# Altium footprint library diy-modules.PCBLIB: 111 footprints (part 6 of 7)
Each footprint in its own frame and in the unit in brackets; x right, y up, seen from the top. Pads: shape width x height; smd on the part's side, far side on the other; paste and mask are expansions set on the pad; w line width, h text height; cw(c..) or ccw(c..) is an arc to the next point about the centre after c.
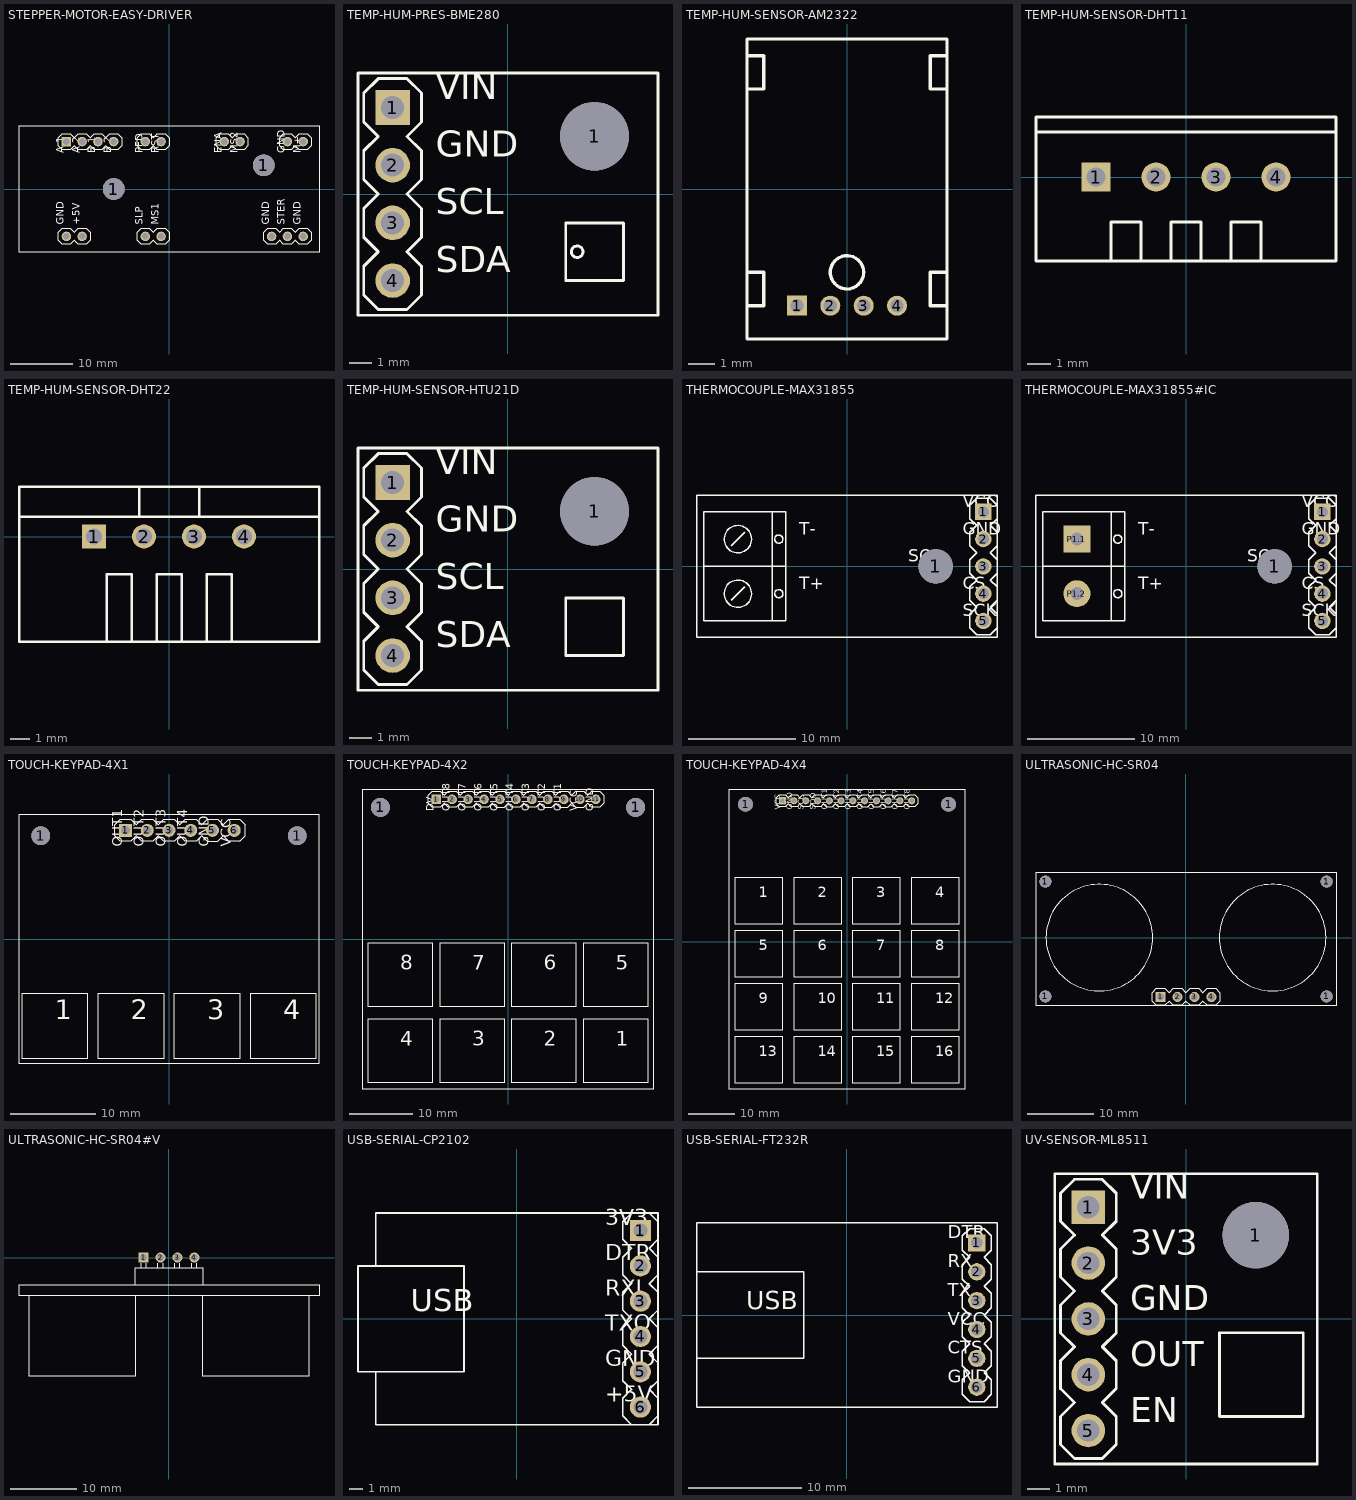
[diagram p5: the footprints below, top view; thin cyan lines are the x and y axes]

## STEPPER-MOTOR-EASY-DRIVER [mil]
pads (19):
  round 138 hole 138: 1(-350,0) 1(600,150)
  round 60 hole 40: JP1.1(750,300) JP1.2(850,300) JP2.1(650,-300) JP2.2(750,-300) JP2.3(850,-300) JP3.2(-550,300) JP3.3(-450,300) JP3.4(-350,300) JP4.1(-550,-300) JP4.2(-650,-300) JP5.1(-50,-300) JP5.2(-150,-300) JP6.1(350,300) JP6.2(450,300) JP7.1(-150,300) JP7.2(-50,300)
  rect 60x60 hole 40: JP3.1(-650,300)
Top Overlay:
  lines w5: -950,-400 950,-400 950,400 -950,400 -950,-400 ; -700,-325 -675,-350 -625,-350 -600,-325 -575,-350 -525,-350 -500,-325 -500,-275 -525,-250 -575,-250 -600,-275 -625,-250 -675,-250 -700,-275 -700,-325 ; -700,275 -675,250 -625,250 -600,275 -575,250 -525,250 -500,275 -475,250 -425,250 -400,275 -375,250 -325,250 -300,275 -300,325 -325,350 -375,350 -400,325 -425,350 -475,350 -500,325 -525,350 -575,350 -600,325 -625,350 -675,350 -700,325 -700,275 ; -200,-325 -175,-350 -125,-350 -100,-325 -75,-350 -25,-350 0,-325 0,-275 -25,-250 -75,-250 -100,-275 -125,-250 -175,-250 -200,-275 -200,-325 ; -200,275 -175,250 -125,250 -100,275 -75,250 -25,250 0,275 0,325 -25,350 -75,350 -100,325 -125,350 -175,350 -200,325 -200,275 ; 300,275 325,250 375,250 400,275 425,250 475,250 500,275 500,325 475,350 425,350 400,325 375,350 325,350 300,325 300,275 ; 600,-325 625,-350 675,-350 700,-325 725,-350 775,-350 800,-325 825,-350 875,-350 900,-325 900,-275 875,-250 825,-250 800,-275 775,-250 725,-250 700,-275 675,-250 625,-250 600,-275 600,-325 ; 700,275 725,250 775,250 800,275 825,250 875,250 900,275 900,325 875,350 825,350 800,325 775,350 725,350 700,325 700,275
  text "GND" at -650,-225 h77.5
  text "+5V" at -550,-225 h77.5
  text "SLP" at -150,-225 h77.5
  text "MS1" at -50,-225 h77.5
  text "GND" at 650,-225 h77.5
  text "STER" at 750,-225 h77.5
  text "GND" at 850,-225 h77.5
  text "A.1" at -650,225 h77.5
  text "A.2" at -550,225 h77.5
  text "B.1" at -450,225 h77.5
  text "B.2" at -350,225 h77.5
  text "PFD" at -150,225 h77.5
  text "RST" at -50,225 h77.5
  text "ENA" at 350,225 h77.5
  text "MS2" at 450,225 h77.5
  text "GND" at 750,225 h77.5
  text "M+" at 850,225 h77.5

## TEMP-HUM-PRES-BME280 [mil]
pads (5):
  rect 60x60 hole 40: 1(-200,150)
  round 119 hole 119: 1(150,100)
  round 60 hole 40: 2(-200,50) 3(-200,-50) 4(-200,-150)
Top Overlay:
  circle w5: c120,-100 r10
  lines w5: -260,-210 260,-210 260,210 -260,210 -260,-210 ; -250,-175 -225,-200 -175,-200 -150,-175 -150,-125 -175,-100 -150,-75 -150,-25 -175,0 -150,25 -150,75 -175,100 -150,125 -150,175 -175,200 -225,200 -250,175 -250,125 -225,100 -250,75 -250,25 -225,0 -250,-25 -250,-75 -225,-100 -250,-125 -250,-175 ; 100,-150 200,-150 200,-50 100,-50 100,-150
  text "SCL" at -125,-50 h77.5
  text "GND" at -125,50 h77.5
  text "VIN" at -125,150 h77.5
  text "SDA" at -125,-150 h77.5

## TEMP-HUM-SENSOR-AM2322 [mil]
pads (4):
  rect 30x30 hole 20: 1(-75,-175)
  round 30 hole 20: 2(-25,-175) 3(25,-175) 4(75,-175)
Top Overlay:
  circle w5: c0,-125 r25
  lines w5: -150,-175 -150,-225 150,-225 150,-175 ; -150,-175 -150,-125 ; -150,-175 -125,-175 -125,-125 -150,-125 ; -150,-125 -150,150 ; -150,150 -150,200 ; -150,150 -125,150 -125,200 -150,200 ; -150,200 -150,225 150,225 150,200 ; 150,-175 150,-125 ; 150,-175 125,-175 125,-125 150,-125 ; 150,-125 150,150 ; 150,150 150,200 ; 150,150 125,150 125,200 150,200

## TEMP-HUM-SENSOR-DHT11 [mil]
pads (4):
  rect 48x48 hole 32: 1(-150,0)
  round 48 hole 32: 2(-50,0) 3(50,0) 4(150,0)
Top Overlay:
  lines w5: -250,75 -250,-140 -125,-140 ; -250,75 -250,100 250,100 250,75 ; -250,75 250,75 ; -125,-140 -75,-140 ; -125,-140 -125,-75 -75,-75 -75,-140 ; -75,-140 -25,-140 ; -25,-140 25,-140 ; -25,-140 -25,-75 25,-75 25,-140 ; 25,-140 75,-140 ; 75,-140 125,-140 ; 75,-140 75,-75 125,-75 125,-140 ; 125,-140 250,-140 250,75

## TEMP-HUM-SENSOR-DHT22 [mil]
pads (4):
  rect 48x48 hole 32: 1(-150,0)
  round 48 hole 32: 2(-50,0) 3(50,0) 4(150,0)
Top Overlay:
  lines w5: -300,40 -300,-210 -125,-210 ; -300,40 -300,100 -60,100 ; -300,40 -60,40 ; -125,-210 -75,-210 ; -125,-210 -125,-75 -75,-75 -75,-210 ; -75,-210 -25,-210 ; -60,40 60,40 ; -60,40 -60,100 ; -60,100 60,100 ; -25,-210 25,-210 ; -25,-210 -25,-75 25,-75 25,-210 ; 25,-210 75,-210 ; 60,40 300,40 ; 60,40 60,100 ; 60,100 300,100 300,40 ; 75,-210 125,-210 ; 75,-210 75,-75 125,-75 125,-210 ; 125,-210 300,-210 300,40

## TEMP-HUM-SENSOR-HTU21D [mil]
pads (5):
  rect 60x60 hole 40: 1(-200,150)
  round 119 hole 119: 1(150,100)
  round 60 hole 40: 2(-200,50) 3(-200,-50) 4(-200,-150)
Top Overlay:
  lines w5: -260,-210 260,-210 260,210 -260,210 -260,-210 ; -250,-175 -225,-200 -175,-200 -150,-175 -150,-125 -175,-100 -150,-75 -150,-25 -175,0 -150,25 -150,75 -175,100 -150,125 -150,175 -175,200 -225,200 -250,175 -250,125 -225,100 -250,75 -250,25 -225,0 -250,-25 -250,-75 -225,-100 -250,-125 -250,-175 ; 100,-150 200,-150 200,-50 100,-50 100,-150
  text "SCL" at -125,-50 h77.5
  text "GND" at -125,50 h77.5
  text "VIN" at -125,150 h77.5
  text "SDA" at -125,-150 h77.5

## THERMOCOUPLE-MAX31855 [mil]
pads (6):
  round 126 hole 126: 1(325,0)
  rect 60x60 hole 40: 1(500,200)
  round 60 hole 40: 2(500,100) 3(500,0) 4(500,-100) 5(500,-200)
Top Overlay:
  circle w5: c-400,100 r50
  circle w5: c-400,-100 r50
  circle w5: c-250,100 r15
  circle w5: c-250,-100 r15
  lines w5: -425,-125 -375,-75 ; -425,75 -375,125 ; 550,-225 525,-250 475,-250 450,-225 450,-175 475,-150 450,-125 450,-75 475,-50 450,-25 450,25 475,50 450,75 450,125 475,150 450,175 450,225 475,250 525,250 550,225 ; 550,-175 525,-150 550,-125 ; 550,-75 525,-50 550,-25 ; 550,25 525,50 550,75 ; 550,125 525,150 550,175 ; -525,0 -525,-200 -275,-200 ; -525,0 -525,200 -275,200 ; -525,0 -225,0 ; -275,-200 -225,-200 -225,0 ; -275,-200 -275,200 ; -275,200 -225,200 -225,0 ; -550,-260 550,-260 550,260 -550,260 -550,-260
  text "T-" at -175,100 h77.5
  text "T+" at -175,-100 h77.5
  text "VCC" at 425,200 h77.5
  text "GND" at 425,100 h77.5
  text "CS" at 425,-100 h77.5
  text "SCK" at 425,-200 h77.5
  text "SO" at 225,0 h77.5

## THERMOCOUPLE-MAX31855#IC [mil]
pads (8):
  round 126 hole 126: 1(325,0)
  rect 60x60 hole 40: 1(500,200)
  round 60 hole 40: 2(500,100) 3(500,0) 4(500,-100) 5(500,-200)
  rect 99x99 hole 48: P1.1(-400,100)
  round 99 hole 48: P1.2(-400,-100)
Top Overlay:
  circle w5: c-250,100 r15
  circle w5: c-250,-100 r15
  lines w5: 550,-225 525,-250 475,-250 450,-225 450,-175 475,-150 450,-125 450,-75 475,-50 450,-25 450,25 475,50 450,75 450,125 475,150 450,175 450,225 475,250 525,250 550,225 ; 550,-175 525,-150 550,-125 ; 550,-75 525,-50 550,-25 ; 550,25 525,50 550,75 ; 550,125 525,150 550,175 ; -525,0 -525,-200 -275,-200 ; -525,0 -525,200 -275,200 ; -525,0 -225,0 ; -275,-200 -225,-200 -225,0 ; -275,-200 -275,200 ; -275,200 -225,200 -225,0 ; -550,-260 550,-260 550,260 -550,260 -550,-260
  text "T-" at -175,100 h77.5
  text "T+" at -175,-100 h77.5
  text "VCC" at 425,200 h77.5
  text "GND" at 425,100 h77.5
  text "CS" at 425,-100 h77.5
  text "SCK" at 425,-200 h77.5
  text "SO" at 225,0 h77.5

## TOUCH-KEYPAD-4X1 [mil]
pads (8):
  round 87 hole 87: 1(-590,475) 1(590,475)
  rect 60x60 hole 40: 1(-200,500)
  round 60 hole 40: 2(-100,500) 3(0,500) 4(100,500) 5(200,500) 6(300,500)
Top Overlay:
  lines w5: -690,-575 -690,575 690,575 690,-575 -690,-575 ; -675,-550 -375,-550 -375,-250 -675,-250 -675,-550 ; -325,-550 -25,-550 -25,-250 -325,-250 -325,-550 ; -250,475 -225,450 -175,450 -150,475 -125,450 -75,450 -50,475 -25,450 25,450 50,475 75,450 125,450 150,475 175,450 225,450 250,475 275,450 325,450 350,475 350,525 325,550 275,550 250,525 225,550 175,550 150,525 125,550 75,550 50,525 25,550 -25,550 -50,525 -75,550 -125,550 -150,525 -175,550 -225,550 -250,525 -250,475 ; 25,-550 325,-550 325,-250 25,-250 25,-550 ; 375,-550 675,-550 675,-250 375,-250 375,-550
  text "OUT1" at -200,425 h77.5
  text "OUT2" at -100,425 h77.5
  text "OUT3" at 0,425 h77.5
  text "OUT4" at 100,425 h77.5
  text "VCC" at 300,425 h77.5
  text "GND" at 200,425 h77.5
  text "2" at -175,-400 h155
  text "1" at -525,-400 h155
  text "4" at 525,-400 h155
  text "3" at 175,-400 h155

## TOUCH-KEYPAD-4X2 [mil]
pads (13):
  round 119 hole 119: 1(-800,825) 1(800,825)
  rect 60x60 hole 40: 1(-450,875)
  round 60 hole 40: 2(-350,875) 3(-250,875) 4(-150,875) 5(-50,875) 6(50,875) 7(150,875) 8(250,875) 9(350,875) 10(450,875) 11(550,875)
Top Overlay:
  lines w5: -910,-940 -910,940 910,940 910,-940 -910,-940 ; -875,-900 -475,-900 -475,-500 -875,-500 -875,-900 ; -875,-425 -475,-425 -475,-25 -875,-25 -875,-425 ; -500,850 -475,825 -425,825 -400,850 -375,825 -325,825 -300,850 -275,825 -225,825 -200,850 -175,825 -125,825 -100,850 -75,825 -25,825 0,850 25,825 75,825 100,850 125,825 175,825 200,850 225,825 275,825 300,850 325,825 375,825 400,850 425,825 475,825 500,850 525,825 575,825 600,850 600,900 575,925 525,925 500,900 475,925 425,925 400,900 375,925 325,925 300,900 275,925 225,925 200,900 175,925 125,925 100,900 75,925 25,925 0,900 -25,925 -75,925 -100,900 -125,925 -175,925 -200,900 -225,925 -275,925 -300,900 -325,925 -375,925 -400,900 -425,925 -475,925 -500,900 -500,850 ; -425,-900 -25,-900 -25,-500 -425,-500 -425,-900 ; -425,-425 -25,-425 -25,-25 -425,-25 -425,-425 ; 25,-900 425,-900 425,-500 25,-500 25,-900 ; 25,-425 425,-425 425,-25 25,-25 25,-425 ; 475,-900 875,-900 875,-500 475,-500 475,-900 ; 475,-425 875,-425 875,-25 475,-25 475,-425
  text "DV" at -450,800 h77.5
  text "OUT8" at -350,800 h77.5
  text "OUT7" at -250,800 h77.5
  text "OUT6" at -150,800 h77.5
  text "OUT4" at 50,800 h77.5
  text "OUT3" at 150,800 h77.5
  text "GND" at 550,800 h77.5
  text "OUT5" at -50,800 h77.5
  text "OUT2" at 250,800 h77.5
  text "OUT1" at 350,800 h77.5
  text "VCC" at 450,800 h77.5
  text "7" at -225,-225 h155
  text "3" at -225,-700 h155
  text "8" at -675,-225 h155
  text "4" at -675,-700 h155
  text "5" at 675,-225 h155
  text "1" at 675,-700 h155
  text "6" at 225,-225 h155
  text "2" at 225,-700 h155

## TOUCH-KEYPAD-4X4 [mil]
pads (14):
  round 126 hole 126: 1(-862.5,1170) 1(863,1170)
  rect 60x60 hole 40: 1(-550,1200)
  round 60 hole 40: 2(-450,1200) 3(-350,1200) 4(-250,1200) 5(-150,1200) 6(-50,1200) 7(50,1200) 8(150,1200) 9(250,1200) 10(350,1200) 11(450,1200) 12(550,1200)
Top Overlay:
  lines w5: -1000,-1250 -1000,1300 1000,1300 1000,-1250 -1000,-1250 ; -950,-1200 -550,-1200 -550,-800 -950,-800 -950,-1200 ; -950,-750 -550,-750 -550,-350 -950,-350 -950,-750 ; -950,-300 -550,-300 -550,100 -950,100 -950,-300 ; -950,150 -550,150 -550,550 -950,550 -950,150 ; -600,1175 -575,1150 -525,1150 -500,1175 -475,1150 -425,1150 -400,1175 -375,1150 -325,1150 -300,1175 -275,1150 -225,1150 -200,1175 -175,1150 -125,1150 -100,1175 -75,1150 -25,1150 0,1175 25,1150 75,1150 100,1175 125,1150 175,1150 200,1175 225,1150 275,1150 300,1175 325,1150 375,1150 400,1175 425,1150 475,1150 500,1175 525,1150 575,1150 600,1175 600,1225 575,1250 525,1250 500,1225 475,1250 425,1250 400,1225 375,1250 325,1250 300,1225 275,1250 225,1250 200,1225 175,1250 125,1250 100,1225 75,1250 25,1250 0,1225 -25,1250 -75,1250 -100,1225 -125,1250 -175,1250 -200,1225 -225,1250 -275,1250 -300,1225 -325,1250 -375,1250 -400,1225 -425,1250 -475,1250 -500,1225 -525,1250 -575,1250 -600,1225 -600,1175 ; -450,-1200 -50,-1200 -50,-800 -450,-800 -450,-1200 ; -450,-750 -50,-750 -50,-350 -450,-350 -450,-750 ; -450,-300 -50,-300 -50,100 -450,100 -450,-300 ; -450,150 -50,150 -50,550 -450,550 -450,150 ; 50,-1200 450,-1200 450,-800 50,-800 50,-1200 ; 50,-750 450,-750 450,-350 50,-350 50,-750 ; 50,-300 450,-300 450,100 50,100 50,-300 ; 50,150 450,150 450,550 50,550 50,150 ; 550,-1200 950,-1200 950,-800 550,-800 550,-1200 ; 550,-750 950,-750 950,-350 550,-350 550,-750 ; 550,-300 950,-300 950,100 550,100 550,-300 ; 550,150 950,150 950,550 550,550 550,150
  text "VCC" at -550,1125 h77.5
  text "GND" at -450,1125 h77.5
  text "SCL" at -350,1125 h77.5
  text "SDO" at -250,1125 h77.5
  text "OUT2" at -50,1125 h77.5
  text "OUT3" at 50,1125 h77.5
  text "OUT7" at 450,1125 h77.5
  text "OUT8" at 550,1125 h77.5
  text "OUT1" at -150,1125 h77.5
  text "OUT4" at 150,1125 h77.5
  text "OUT5" at 250,1125 h77.5
  text "OUT6" at 350,1125 h77.5
  text "1" at -750,350 h155
  text "2" at -250,350 h155
  text "3" at 250,350 h155
  text "4" at 750,350 h155
  text "5" at -750,-100 h155
  text "6" at -250,-100 h155
  text "7" at 250,-100 h155
  text "8" at 750,-100 h155
  text "9" at -750,-550 h155
  text "10" at -250,-550 h155
  text "11" at 250,-550 h155
  text "12" at 750,-550 h155
  text "13" at -750,-1000 h155
  text "14" at -250,-1000 h155
  text "15" at 250,-1000 h155
  text "16" at 750,-1000 h155

## ULTRASONIC-HC-SR04 [mil]
pads (8):
  round 71 hole 71: 1(-830.71,-346.46) 1(-830.71,331) 1(831,-346.46) 1(831,331)
  rect 60x60 hole 40: 1(-150,-350)
  round 60 hole 40: 2(-50,-350) 3(50,-350) 4(150,-350)
Top Overlay:
  circle w5: c-511.81,0 r315
  circle w5: c512,0 r315
  lines w5: -885.83,-401.57 886,-401.57 886,386 -885.83,386 -885.83,-401.57 ; -200,-375 -175,-400 -125,-400 -100,-375 -75,-400 -25,-400 0,-375 25,-400 75,-400 100,-375 125,-400 175,-400 200,-375 200,-325 175,-300 125,-300 100,-325 75,-300 25,-300 0,-325 -25,-300 -75,-300 -100,-325 -125,-300 -175,-300 -200,-325 -200,-375

## ULTRASONIC-HC-SR04#V [mil]
pads (4):
  rect 60x60 hole 40: 1(-150,0)
  round 60 hole 40: 2(-50,0) 3(50,0) 4(150,0)
Top Overlay:
  lines w5: -165,-35 -165,-60 ; -135,-35 -135,-60 ; -65,-35 -65,-60 ; -35,-35 -35,-60 ; 35,-35 35,-60 ; 65,-35 65,-60 ; 135,-35 135,-60 ; 165,-35 165,-60 ; -826.77,-224.41 -196.85,-224.41 ; -826.77,-224.41 -885.83,-224.41 -885.83,-160 886,-160 886,-224.41 827,-224.41 ; -826.77,-224.41 -826.77,-696.85 -196.85,-696.85 -196.85,-224.41 ; -196.85,-224.41 197,-224.41 ; -165,-60 -200,-60 -200,-160 200,-160 200,-60 165,-60 ; -165,-60 -135,-60 ; -135,-60 -65,-60 ; -65,-60 -35,-60 ; -35,-60 35,-60 ; 35,-60 65,-60 ; 65,-60 135,-60 ; 135,-60 165,-60 ; 197,-224.41 827,-224.41 ; 197,-224.41 197,-696.85 827,-696.85 827,-224.41

## USB-SERIAL-CP2102 [mil]
pads (6):
  rect 60x60 hole 40: 1(350,250)
  round 60 hole 40: 2(350,150) 3(350,50) 4(350,-50) 5(350,-150) 6(350,-250)
Top Overlay:
  lines w5: 325,-300 300,-275 300,-225 325,-200 300,-175 300,-125 325,-100 300,-75 300,-25 325,0 300,25 300,75 325,100 300,125 300,175 325,200 300,225 300,275 325,300 ; 375,-300 400,-275 ; 375,300 400,275 ; 400,-225 375,-200 400,-175 ; 400,-125 375,-100 400,-75 ; 400,-25 375,0 400,25 ; 400,75 375,100 400,125 ; 400,175 375,200 400,225 ; -400,-150 -400,-300 400,-300 400,300 -400,300 -400,150 ; -400,-150 -150,-150 -150,150 -400,150 ; -400,-150 -450,-150 -450,150 -400,150
  text "USB" at -300,0 h108.5
  text "3V3" at 250,250 h77.5
  text "DTR" at 250,150 h77.5
  text "RXI" at 250,50 h77.5
  text "TXO" at 250,-50 h77.5
  text "GND" at 250,-150 h77.5
  text "+5V" at 250,-250 h77.5

## USB-SERIAL-FT232R [mil]
pads (6):
  rect 60x60 hole 40: 1(450,250)
  round 60 hole 40: 2(450,150) 3(450,50) 4(450,-50) 5(450,-150) 6(450,-250)
Top Overlay:
  lines w5: -520,-150 -520,150 ; -520,-150 -520,-320 520,-320 520,320 -520,320 -520,150 ; -520,-150 -150,-150 -150,150 -520,150 ; 400,-275 400,-225 425,-200 400,-175 400,-125 425,-100 400,-75 400,-25 425,0 400,25 400,75 425,100 400,125 400,175 425,200 400,225 400,275 425,300 475,300 500,275 500,225 475,200 500,175 500,125 475,100 500,75 500,25 475,0 500,-25 500,-75 475,-100 500,-125 500,-175 475,-200 500,-225 500,-275 475,-300 425,-300 400,-275
  text "USB" at -350,0 h108.5
  text "DTR" at 350,250 h77.5
  text "RX" at 350,150 h77.5
  text "TX" at 350,50 h77.5
  text "VCC" at 350,-50 h77.5
  text "CTS" at 350,-150 h77.5
  text "GND" at 350,-250 h77.5

## UV-SENSOR-ML8511 [mil]
pads (6):
  rect 60x60 hole 40: 1(-175,200)
  round 119 hole 119: 1(125,150)
  round 60 hole 40: 2(-175,100) 3(-175,0) 4(-175,-100) 5(-175,-200)
Top Overlay:
  lines w5: -235,-260 235,-260 235,260 -235,260 -235,-260 ; -225,-225 -225,-175 -200,-150 -225,-125 -225,-75 -200,-50 -225,-25 -225,25 -200,50 -225,75 -225,125 -200,150 -225,175 -225,225 -200,250 -150,250 -125,225 -125,175 -150,150 -125,125 -125,75 -150,50 -125,25 -125,-25 -150,-50 -125,-75 -125,-125 -150,-150 -125,-175 -125,-225 -150,-250 -200,-250 -225,-225 ; 60,-175 210,-175 210,-25 60,-25 60,-175
  text "GND" at -100,0 h77.5
  text "3V3" at -100,100 h77.5
  text "VIN" at -100,200 h77.5
  text "OUT" at -100,-100 h77.5
  text "EN" at -100,-200 h77.5